# Altium footprint library SRP1770C-3R3M.PcbLib: 1 footprints
Each footprint in its own frame and in the unit in brackets; x right, y up, seen from the top. Pads: shape width x height; smd on the part's side, far side on the other; paste and mask are expansions set on the pad; w line width, h text height; cw(c..) or ccw(c..) is an arc to the next point about the centre after c.
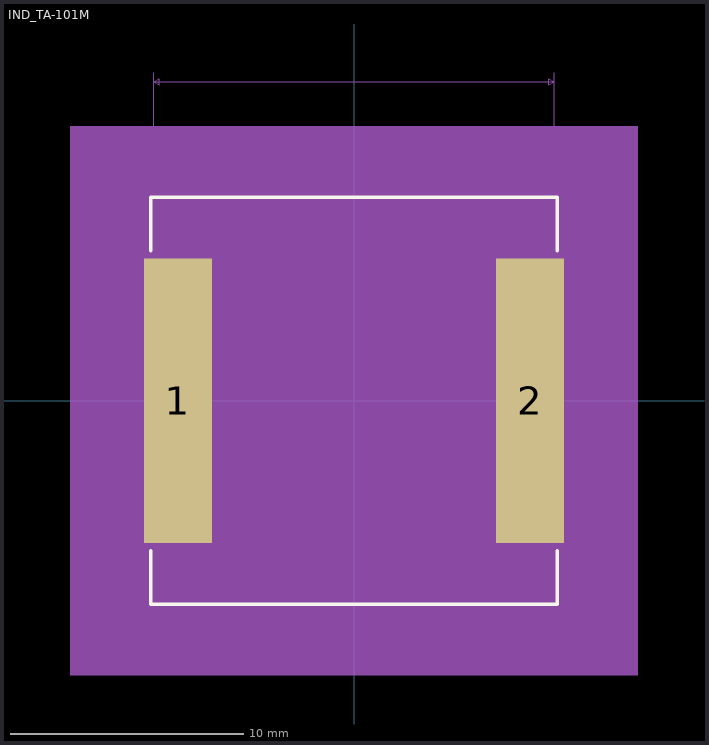
[diagram p0: the footprint, top view; thin cyan lines are the x and y axes]

## IND_TA-101M [mil]
pads (2):
  rect 114.5x480 smd paste+0 mask+0: 1(-297.25,0) 2(297.25,0)
Top Overlay:
  lines w6: -343.5,-253.1 -343.5,-343.5 343.5,-343.5 343.5,-253.1 ; -343.5,253.1 -343.5,343.5 343.5,343.5 343.5,253.1
Mechanical 5:
  region: 479.5,-463.5 -479.5,-463.5 -479.5,463.5 479.5,463.5
Mechanical 7:
  lines w1: -405,-338.5 348.5,-338.5 ; -405,338.5 348.5,338.5 ; -338.5,250 -338.5,553.5 ; 338.5,250 338.5,553.5 ; -390,-338.5 -390,338.5 ; -390,-338.5 -395,-328.5 -385,-328.5 -390,-338.5 ; -390,338.5 -395,328.5 -385,328.5 -390,338.5 ; -338.5,538.5 338.5,538.5 ; -338.5,538.5 -328.5,543.5 -328.5,533.5 -338.5,538.5 ; 338.5,538.5 328.5,543.5 328.5,533.5 338.5,538.5
  text "Default Pad Style: RX114p5Y480D0T" at -412.5,-548.5 h50
  text "Alt 1 Pad Style: OX60Y90D30P" at -350,-598.5 h50
  text "Alt 2 Pad Style: EX90Y60D30P" at -350,-648.5 h50
  text "0.677in/17.196mm" at -100,558.5 h25
  text "0.677in/17.196mm" at -610,-12.5 h25
Mechanical 13:
  lines w1: -338.5,-338.5 338.5,-338.5 338.5,338.5 -338.5,338.5 -338.5,-338.5
Mechanical 15:
  region: -348.5,-250 -364.5,-250 -364.5,250 -348.5,250 -348.5,348.5 348.5,348.5 348.5,250 364.5,250 364.5,-250 348.5,-250 348.5,-348.5 -348.5,-348.5
  lines w6: -364.5,-250 -364.5,250 -348.5,250 -348.5,348.5 348.5,348.5 348.5,250 364.5,250 364.5,-250 348.5,-250 348.5,-348.5 -348.5,-348.5 -348.5,-250 -364.5,-250
3D body: height 276, standoff 0, extent -340,-340 340,340
3D body: height 10, standoff 0, extent 0,0 10,10